# Altium footprint library AP6256.PcbLib: 1 footprints
Each footprint in its own frame and in the unit in brackets; x right, y up, seen from the top. Pads: shape width x height; smd on the part's side, far side on the other; paste and mask are expansions set on the pad; w line width, h text height; cw(c..) or ccw(c..) is an arc to the next point about the centre after c.
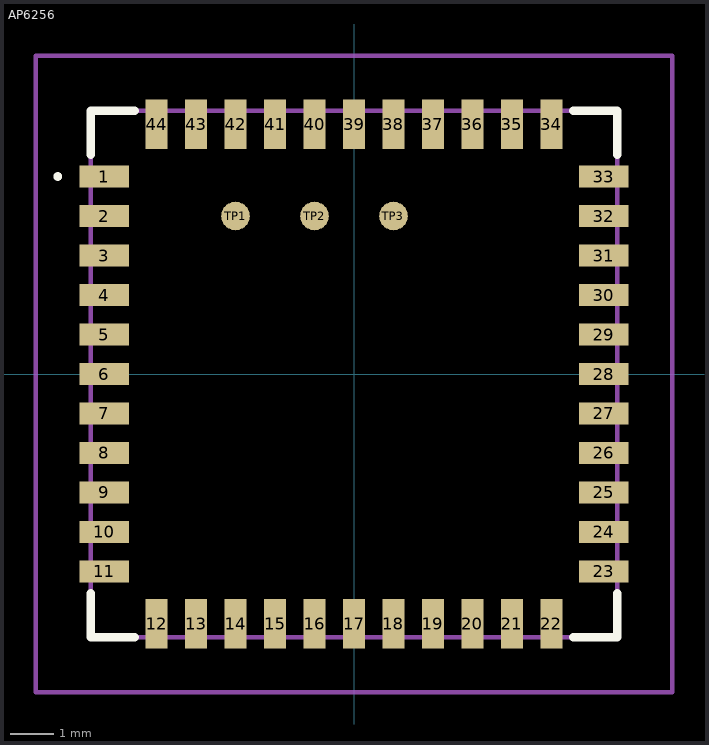
[diagram p0: the footprint, top view; thin cyan lines are the x and y axes]

## AP6256 [mm]
pads (47):
  rect 1.125x0.5 smd: 1(-5.688,4.5) 2(-5.688,3.6) 3(-5.688,2.7) 4(-5.688,1.8) 5(-5.688,0.9) 6(-5.688,0) 7(-5.688,-0.9) 8(-5.688,-1.8) 9(-5.688,-2.7) 10(-5.688,-3.6) 11(-5.688,-4.5) 23(5.688,-4.5) 24(5.688,-3.6) 25(5.688,-2.7) 26(5.688,-1.8) 27(5.688,-0.9) 28(5.688,0) 29(5.688,0.9) 30(5.688,1.8) 31(5.688,2.7) 32(5.688,3.6) 33(5.688,4.5)
  rect 0.5x1.125 smd: 12(-4.5,-5.688) 13(-3.6,-5.688) 14(-2.7,-5.688) 15(-1.8,-5.688) 16(-0.9,-5.688) 17(0,-5.688) 18(0.9,-5.688) 19(1.8,-5.688) 20(2.7,-5.688) 21(3.6,-5.688) 22(4.5,-5.688) 34(4.5,5.688) 35(3.6,5.688) 36(2.7,5.688) 37(1.8,5.688) 38(0.9,5.688) 39(0,5.688) 40(-0.9,5.688) 41(-1.8,5.688) 42(-2.7,5.688) 43(-3.6,5.688) 44(-4.5,5.688)
  round 0.65 smd: TP1(-2.7,3.6) TP2(-0.9,3.6) TP3(0.9,3.6)
Top Overlay:
  lines w0.1: -6.8,4.5 cw(c-6.75,4.5) -6.7,4.5 ; -6.8,4.5 -6.8,4.5 ; -6.8,4.5 ccw(c-6.75,4.5) -6.7,4.5 ; -6.7,4.5 -6.7,4.5
  lines w0.2: -6,-5 -6,-6 -5,-6 ; -6,5 -6,6 -5,6 ; 5,-6 6,-6 6,-5 ; 5,6 6,6 6,5
Mechanical 15:
  lines w0.1: -6,-6 6,-6 6,6 -6,6 -6,-6
Mechanical 20:
  lines w0.1: -7.25,-7.25 7.25,-7.25 7.25,7.25 -7.25,7.25 -7.25,-7.25